# EAGLE library part ATMEGA1284P-AU (library Microcontroller)
IC MCU 8BIT 128KB FLASH 44TQFP Manufacturer's datasheet <http://ww1.microchip.com/downloads/en/DeviceDoc/ATmega164A_PA-324A_PA-644A_PA-1284_P_Data-Sheet-40002070A.pdf>
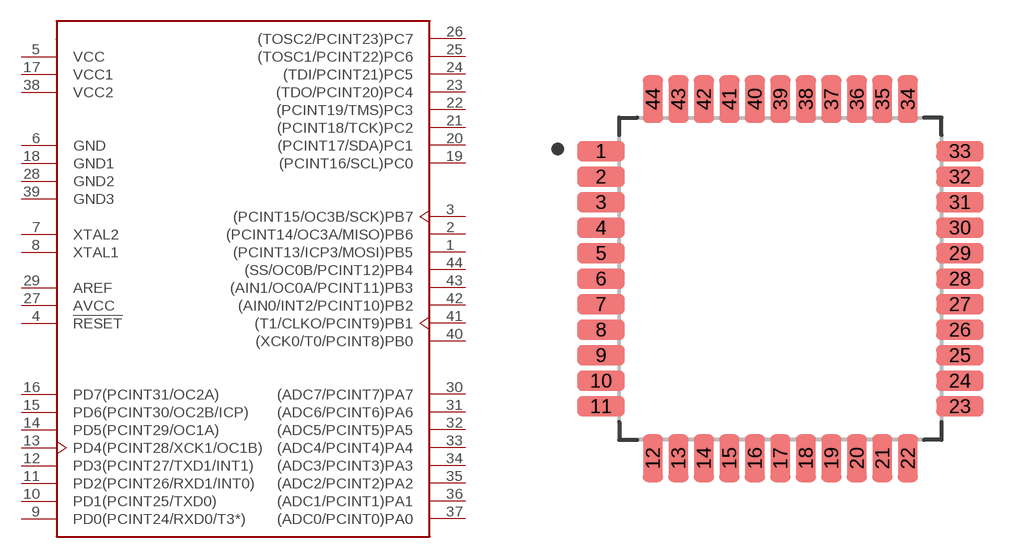
[diagram p26: symbol with the pads of TQFP-44; footprint TQFP-44]

Designator prefix U

## ATMEGA1284P-AU (CREATED_BY: PCBLayout.com; DIGIKEY_PART_NUMBER: ATMEGA1284P-AU-ND; MANUFACTURER: Microchip Technology; MPN: ATMEGA1284P-AU; PACKAGE: TQFP-44)  [TQFP-44]
1  (PCINT13/ICP3/MOSI)PB5
2  (PCINT14/OC3A/MISO)PB6
3  (PCINT15/OC3B/SCK)PB7
4  !RESET  in
5  VCC  pwr
6  GND  pwr
7  XTAL2  out
8  XTAL1  in
9  PD0(PCINT24/RXD0/T3*)
10  PD1(PCINT25/TXD0)
11  PD2(PCINT26/RXD1/INT0)
12  PD3(PCINT27/TXD1/INT1)
13  PD4(PCINT28/XCK1/OC1B)
14  PD5(PCINT29/OC1A)
15  PD6(PCINT30/OC2B/ICP)
16  PD7(PCINT31/OC2A)
17  VCC1  pwr
18  GND1  pwr
19  (PCINT16/SCL)PC0
20  (PCINT17/SDA)PC1
21  (PCINT18/TCK)PC2
22  (PCINT19/TMS)PC3
23  (TDO/PCINT20)PC4
24  (TDI/PCINT21)PC5
25  (TOSC1/PCINT22)PC6
26  (TOSC2/PCINT23)PC7
27  AVCC  pwr
28  GND2  pwr
29  AREF  in
30  (ADC7/PCINT7)PA7
31  (ADC6/PCINT6)PA6
32  (ADC5/PCINT5)PA5
33  (ADC4/PCINT4)PA4
34  (ADC3/PCINT3)PA3
35  (ADC2/PCINT2)PA2
36  (ADC1/PCINT1)PA1
37  (ADC0/PCINT0)PA0
38  VCC2  pwr
39  GND3  pwr
40  (XCK0/T0/PCINT8)PB0
41  (T1/CLKO/PCINT9)PB1
42  (AIN0/INT2/PCINT10)PB2
43  (AIN1/OC0A/PCINT11)PB3
44  (SS/OC0B/PCINT12)PB4

## Footprint TQFP-44 (pad centres in mm)
smd 1.5 x 0.64: 1 -5.63,4; 2 -5.63,3.2; 3 -5.63,2.4; 4 -5.63,1.6; 5 -5.63,0.8; 6 -5.63,0; 7 -5.63,-0.8; 8 -5.63,-1.6; 9 -5.63,-2.4; 10 -5.63,-3.2; 11 -5.63,-4; 23 5.63,-4; 24 5.63,-3.2; 25 5.63,-2.4; 26 5.63,-1.6; 27 5.63,-0.8; 28 5.63,0; 29 5.63,0.8; 30 5.63,1.6; 31 5.63,2.4; 32 5.63,3.2; 33 5.63,4
smd 0.64 x 1.5: 12 -4,-5.63; 13 -3.2,-5.63; 14 -2.4,-5.63; 15 -1.6,-5.63; 16 -0.8,-5.63; 17 0,-5.63; 18 0.8,-5.63; 19 1.6,-5.63; 20 2.4,-5.63; 21 3.2,-5.63; 22 4,-5.63; 34 4,5.63; 35 3.2,5.63; 36 2.4,5.63; 37 1.6,5.63; 38 0.8,5.63; 39 0,5.63; 40 -0.8,5.63; 41 -1.6,5.63; 42 -2.4,5.63; 43 -3.2,5.63; 44 -4,5.63